# Altium integrated library 1066.IntLib: 1 symbol
Pins are listed as number, name and electrical type; pins without a type are passive.

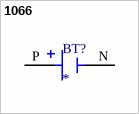
[diagram p0: symbol 1066]

## 1066
designator BT?
MP: 1066; Package: None; Price: None; Value: *; Availability: Unavailable
footprint BAT_1066
pins: N NEG, P POS